# EAGLE library part TPS61093 (library Harrington-ICs v130)
DC-DC Boost Converter Texas Instruments - Input Voltage: 1.6-6V - Output Voltage: up to 17V - Max Current: 1.1A
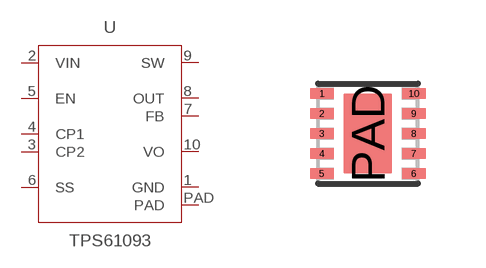
[diagram p20: symbol with the pads of WSON-10; footprint WSON-10]

Designator prefix U

## TPS61093  [WSON-10]
1  GND  pwr
2  VIN  pwr
3  CP2
4  CP1
5  EN
6  SS
7  FB
8  OUT  pwr
9  SW
10  VO  pwr
PAD  PAD  pwr

## Footprint WSON-10 (pad centres in mm)
smd 0.6 x 0.25: 1 -1.15,1; 2 -1.15,0.5; 3 -1.15,0; 4 -1.15,-0.5; 5 -1.15,-1; 6 1.15,-1; 7 1.15,-0.5; 8 1.15,0; 9 1.15,0.5; 10 1.15,1
smd 1.2 x 2: PAD 0,0